# Altium schematic symbol library SMH118.SchLib: 4 symbols
Pins are listed as number, name and electrical type; pins without a type are passive.

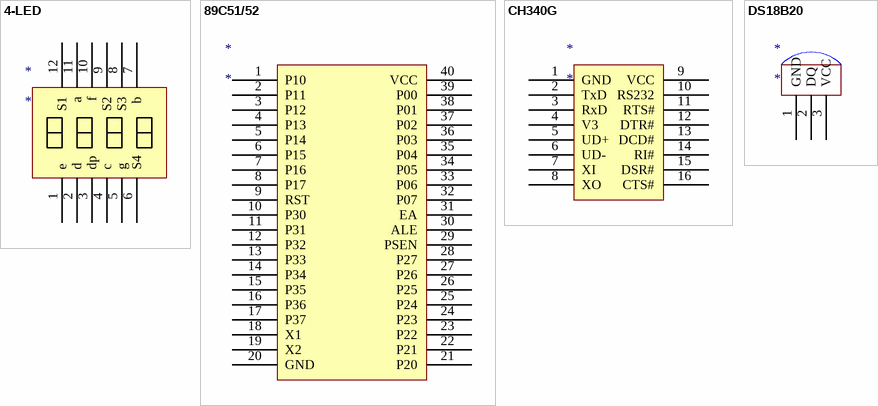
[diagram p0: symbols 4-LED to DS18B20]

## 4-LED
designator *
footprint .3684
pins: 1 e, 2 d, 3 dp, 4 c, 5 g, 6 S4, 7 b, 8 S3, 9 S2, 10 f, 11 a, 12 S1

## 89C51/52
designator *
footprint DIP40
pins: 1 P10, 2 P11, 3 P12, 4 P13, 5 P14, 6 P15, 7 P16, 8 P17, 9 RST, 10 P30, 11 P31, 12 P32, 13 P33, 14 P34, 15 P35, 16 P36, 17 P37, 18 X1, 19 X2, 20 GND, 21 P20, 22 P21, 23 P22, 24 P23, 25 P24, 26 P25, 27 P26, 28 P27, 29 PSEN, 30 ALE, 31 EA, 32 P07, 33 P06, 34 P05, 35 P04, 36 P03, 37 P02, 38 P01, 39 P00, 40 VCC

## CH340G
designator *
footprint SO-16
pins: 1 GND, 2 TxD, 3 RxD, 4 V3, 5 UD+, 6 UD-, 7 XI, 8 XO, 9 VCC, 10 RS232, 11 RTS#, 12 DTR#, 13 DCD#, 14 RI#, 15 DSR#, 16 CTS#

## DS18B20
designator *
footprint SIP3
pins: 1 GND, 2 DQ, 3 VCC